# Altium schematic symbol library SnapEDAsch.SchLib: 1 symbol
Pins are listed as number, name and electrical type; pins without a type are passive.

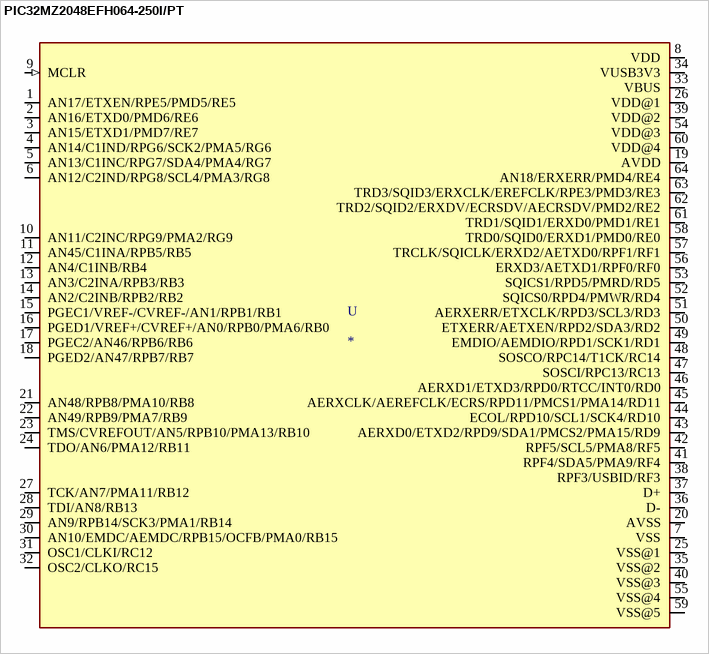
[diagram p0: symbol PIC32MZ2048EFH064-250I/PT]

## PIC32MZ2048EFH064-250I/PT
designator U
MIPS32Â® M-Class PICÂ® 32MZ Microcontroller IC 32-Bit 250MHz 2MB _2M x 8_ FLASH 64-TQFP _10x10_; MP: PIC32MZ2048EFH064-250I/PT; MF: Microchip; SnapEDA_Link: https://www.snapeda.com/parts/PIC32MZ2048EFH064-250I/PT/Microchip/view-part/1145914/?ref=snap; Digi-Key_Purchase_URL: https://www.digikey.com/product-detail/en/microchip-technology/PIC32MZ2048EFH064-250I-PT/PIC32MZ2048EFH064-250I-PT-ND/6152256?utm_source=snapeda&utm_medium=aggregator&utm_campaign=symbol; Value: *; Package: TQFP-64 Microchip; Digi-Key_Part_Number: PIC32MZ2048EFH064-250I/PT-ND
footprint QFP50P1200X1200X120-64N
pins: 1 AN17/ETXEN/RPE5/PMD5/RE5 (io), 2 AN16/ETXD0/PMD6/RE6 (io), 3 AN15/ETXD1/PMD7/RE7 (io), 4 AN14/C1IND/RPG6/SCK2/PMA5/RG6 (io), 5 AN13/C1INC/RPG7/SDA4/PMA4/RG7 (io), 6 AN12/C2IND/RPG8/SCL4/PMA3/RG8 (io), 7 VSS (power), 8 VDD (power), 9 MCLR (in), 10 AN11/C2INC/RPG9/PMA2/RG9 (io), 11 AN45/C1INA/RPB5/RB5 (io), 12 AN4/C1INB/RB4 (io), 13 AN3/C2INA/RPB3/RB3 (io), 14 AN2/C2INB/RPB2/RB2 (io), 15 PGEC1/VREF-/CVREF-/AN1/RPB1/RB1 (io), 16 PGED1/VREF+/CVREF+/AN0/RPB0/PMA6/RB0 (io), 17 PGEC2/AN46/RPB6/RB6 (io), 18 PGED2/AN47/RPB7/RB7 (io), 19 AVDD (power), 20 AVSS (power), 21 AN48/RPB8/PMA10/RB8 (io), 22 AN49/RPB9/PMA7/RB9 (io), 23 TMS/CVREFOUT/AN5/RPB10/PMA13/RB10 (io), 24 TDO/AN6/PMA12/RB11 (io), 25 VSS@1 (power), 26 VDD@1 (power), 27 TCK/AN7/PMA11/RB12 (io), 28 TDI/AN8/RB13 (io), 29 AN9/RPB14/SCK3/PMA1/RB14 (io), 30 AN10/EMDC/AEMDC/RPB15/OCFB/PMA0/RB15 (io), 31 OSC1/CLKI/RC12 (io), 32 OSC2/CLKO/RC15 (io), 33 VBUS (power), 34 VUSB3V3 (power), 35 VSS@2 (power), 36 D- (io), 37 D+ (io), 38 RPF3/USBID/RF3 (io), 39 VDD@2 (power), 40 VSS@3 (power), 41 RPF4/SDA5/PMA9/RF4 (io), 42 RPF5/SCL5/PMA8/RF5 (io), 43 AERXD0/ETXD2/RPD9/SDA1/PMCS2/PMA15/RD9 (io), 44 ECOL/RPD10/SCL1/SCK4/RD10 (io), 45 AERXCLK/AEREFCLK/ECRS/RPD11/PMCS1/PMA14/RD11 (io), 46 AERXD1/ETXD3/RPD0/RTCC/INT0/RD0 (io), 47 SOSCI/RPC13/RC13 (io), 48 SOSCO/RPC14/T1CK/RC14 (io), 49 EMDIO/AEMDIO/RPD1/SCK1/RD1 (io), 50 ETXERR/AETXEN/RPD2/SDA3/RD2 (io), 51 AERXERR/ETXCLK/RPD3/SCL3/RD3 (io), 52 SQICS0/RPD4/PMWR/RD4 (io), 53 SQICS1/RPD5/PMRD/RD5 (io), 54 VDD@3 (power), 55 VSS@4 (power), 56 ERXD3/AETXD1/RPF0/RF0 (io), 57 TRCLK/SQICLK/ERXD2/AETXD0/RPF1/RF1 (io), 58 TRD0/SQID0/ERXD1/PMD0/RE0 (io), 59 VSS@5 (power), 60 VDD@4 (power), 61 TRD1/SQID1/ERXD0/PMD1/RE1 (io), 62 TRD2/SQID2/ERXDV/ECRSDV/AECRSDV/PMD2/RE2 (io), 63 TRD3/SQID3/ERXCLK/EREFCLK/RPE3/PMD3/RE3 (io), 64 AN18/ERXERR/PMD4/RE4 (io)